# Altium integrated library 1-1825058-9.IntLib: 1 symbol
Pins are listed as number, name and electrical type; pins without a type are passive.

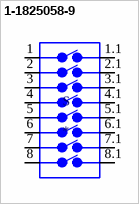
[diagram p0: symbol 1-1825058-9]

## 1-1825058-9
designator S
AD Series 8 Position SPST Extended Slide Non Sealed 2.54 mm Pitch SMT DIP Switch; MF: TE Connectivity; MP: 1-1825058-9; Value: *; TE_purchase_URL: https://www.te.com/usa-en/product-1-1825058-9.html?te_bu=Cor&te_type=disp&te_campaign=seda_glo_cor-seda-global-disp-prtnr-fy19-seda-model-bom-cta_sma-317_1&elqCampaignId=32493; Package: DIP-4 TE Connectivity; Price: None; Availability: Unavailable; SnapEDA_Link: https://www.snapeda.com/parts/1-1825058-9/TE%20Connectivity%20ALCOSWITCH%20Switches/view-part/52148/?ref=snap; EU_RoHS_Compliance: Compliant
footprint SW_1-1825058-9
pins: 1, 1.1, 2, 2.1, 3, 3.1, 4, 4.1, 5, 5.1, 6, 6.1, 7, 7.1, 8, 8.1